# Altium integrated library Linear Technology PMIC-Switching Reg LTC1174-LTC3901.IntLib: 2647 symbols (part 302 of 310)
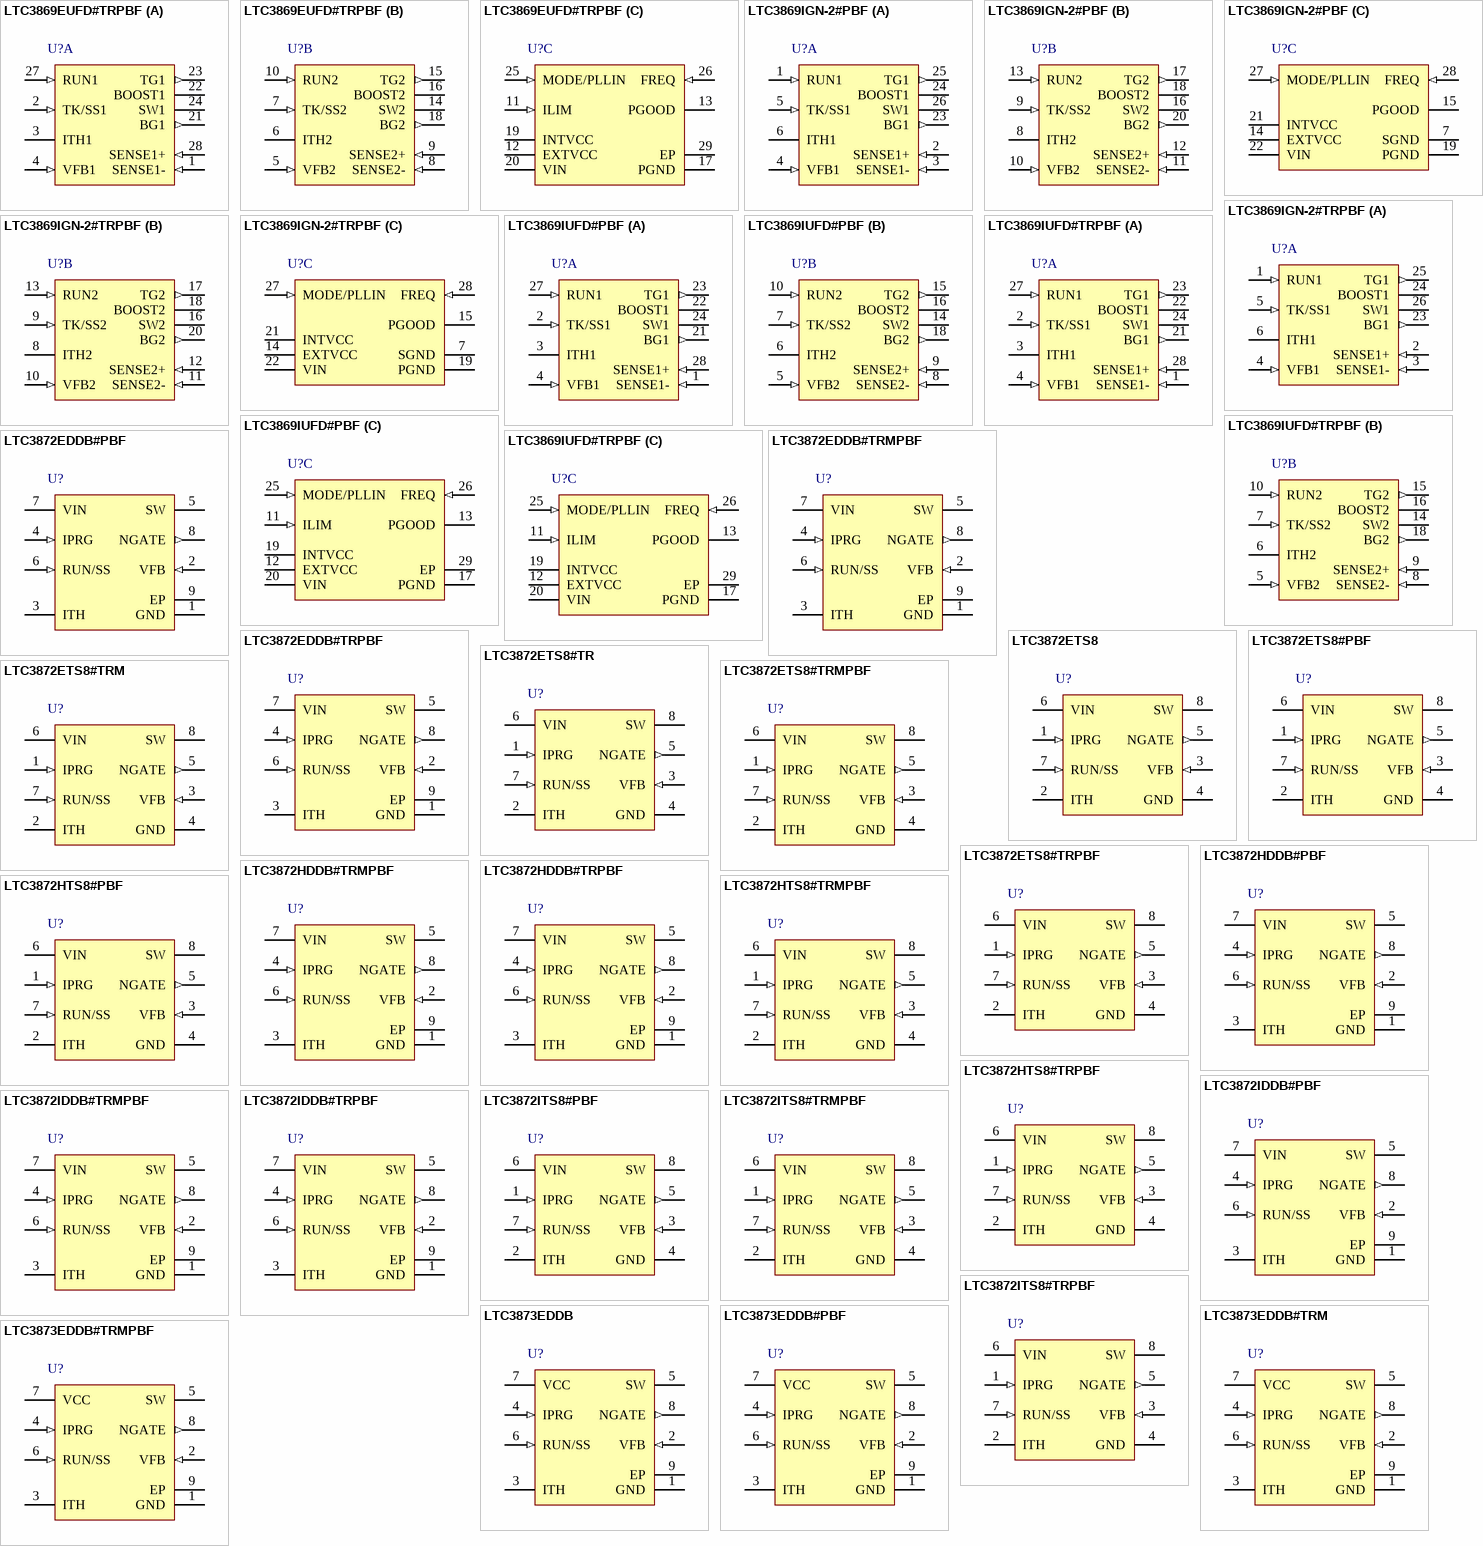
[diagram p299: symbols LTC3869EUFD#TRPBF to LTC3873EDDB#TRMPBF]

## LTC3873EDDB
designator U?
No Rsense Constant Frequency Current Mode Boost / Flyback / SEPIC DC / DC Controller, 8-pin SON (DDB-8), -40 to 85 degC; Manufacturer: Linear Technology; PartNumber: LTC3873EDDB; Number of Outputs: 1; PackageReference: DDB-8; PackageDescription: 8-Pin Plastic DFN, Body 3 x 2 mm, Pitch 0.5 mm; RoHS: FALSE; Code_JEDEC: MO-229
footprint LT-DDB-8_V (SON, 8-Leads, Body 3x2mm, Pitch 0.5mm, Thermal Pad 2.2x0.61mm)
pins: 1 GND (power) "Ground Pin.", 2 VFB (in) "This pin receives the feedback voltage from an external resistor divider across the output.", 3 ITH "This pin serves as the error ampli?er compensation point. Nominal voltage range for this pin is 0.7V to 1.9V.", 4 IPRG (in) "Current Sense Limit Select Pin.", 5 SW "Switch node connection to inductor and current sense input pin through external slope compensation resistor. Normally, the external N-channel MOSFET’s drain is connected to this pin.", 6 RUN/SS (in) "Shutdown and External Soft-Start Pin. In shutdown, all functions are disabled and the NGATE pin is held low.", 7 VCC (power) "Supply Pin. This pin must be closely decoupled to GND (Pin 4).", 8 NGATE (out) "Gate Drive for the External N-Channel MOSFET. This pin swings from 0V to VIN.", 9 EP (power) "Ground. Must be soldered to PCB for electrical contact and rated thermal performance."

## LTC3873EDDB#PBF
designator U?
No Rsense Constant Frequency Current Mode Boost / Flyback / SEPIC DC / DC Controller, 8-pin SON (DDB-8), -40 to 85 degC, Pb-Free; Manufacturer: Linear Technology; PartNumber: LTC3873EDDB#PBF; Number of Outputs: 1; PackageReference: DDB-8; PackageDescription: 8-Pin Plastic DFN, Body 3 x 2 mm, Pitch 0.5 mm; RoHS: TRUE; Code_JEDEC: MO-229
footprint LT-DDB-8_V (SON, 8-Leads, Body 3x2mm, Pitch 0.5mm, Thermal Pad 2.2x0.61mm)
pins: 1 GND (power) "Ground Pin.", 2 VFB (in) "This pin receives the feedback voltage from an external resistor divider across the output.", 3 ITH "This pin serves as the error ampli?er compensation point. Nominal voltage range for this pin is 0.7V to 1.9V.", 4 IPRG (in) "Current Sense Limit Select Pin.", 5 SW "Switch node connection to inductor and current sense input pin through external slope compensation resistor. Normally, the external N-channel MOSFET’s drain is connected to this pin.", 6 RUN/SS (in) "Shutdown and External Soft-Start Pin. In shutdown, all functions are disabled and the NGATE pin is held low.", 7 VCC (power) "Supply Pin. This pin must be closely decoupled to GND (Pin 4).", 8 NGATE (out) "Gate Drive for the External N-Channel MOSFET. This pin swings from 0V to VIN.", 9 EP (power) "Ground. Must be soldered to PCB for electrical contact and rated thermal performance."

## LTC3873EDDB#TRM
designator U?
No Rsense Constant Frequency Current Mode Boost / Flyback / SEPIC DC / DC Controller, 8-pin SON (DDB-8), -40 to 85 degC, Mini Tape and Reel; Manufacturer: Linear Technology; PartNumber: LTC3873EDDB#TRM; Number of Outputs: 1; PackageReference: DDB-8; PackageDescription: 8-Pin Plastic DFN, Body 3 x 2 mm, Pitch 0.5 mm; RoHS: FALSE; Code_JEDEC: MO-229
footprint LT-DDB-8_V (SON, 8-Leads, Body 3x2mm, Pitch 0.5mm, Thermal Pad 2.2x0.61mm)
pins: 1 GND (power) "Ground Pin.", 2 VFB (in) "This pin receives the feedback voltage from an external resistor divider across the output.", 3 ITH "This pin serves as the error ampli?er compensation point. Nominal voltage range for this pin is 0.7V to 1.9V.", 4 IPRG (in) "Current Sense Limit Select Pin.", 5 SW "Switch node connection to inductor and current sense input pin through external slope compensation resistor. Normally, the external N-channel MOSFET’s drain is connected to this pin.", 6 RUN/SS (in) "Shutdown and External Soft-Start Pin. In shutdown, all functions are disabled and the NGATE pin is held low.", 7 VCC (power) "Supply Pin. This pin must be closely decoupled to GND (Pin 4).", 8 NGATE (out) "Gate Drive for the External N-Channel MOSFET. This pin swings from 0V to VIN.", 9 EP (power) "Ground. Must be soldered to PCB for electrical contact and rated thermal performance."

## LTC3873EDDB#TRMPBF
designator U?
No Rsense Constant Frequency Current Mode Boost / Flyback / SEPIC DC / DC Controller, 8-pin SON (DDB-8), -40 to 85 degC, Pb-Free, Mini Tape and Reel; Manufacturer: Linear Technology; PartNumber: LTC3873EDDB#TRMPBF; Number of Outputs: 1; PackageReference: DDB-8; PackageDescription: 8-Pin Plastic DFN, Body 3 x 2 mm, Pitch 0.5 mm; Supplier 1: Digi-Key; Supplier Part Number 1: LTC3873EDDB#TRMPBFTR-ND; RoHS: TRUE; Code_JEDEC: MO-229
footprint LT-DDB-8_V (SON, 8-Leads, Body 3x2mm, Pitch 0.5mm, Thermal Pad 2.2x0.61mm)
pins: 1 GND (power) "Ground Pin.", 2 VFB (in) "This pin receives the feedback voltage from an external resistor divider across the output.", 3 ITH "This pin serves as the error ampli?er compensation point. Nominal voltage range for this pin is 0.7V to 1.9V.", 4 IPRG (in) "Current Sense Limit Select Pin.", 5 SW "Switch node connection to inductor and current sense input pin through external slope compensation resistor. Normally, the external N-channel MOSFET’s drain is connected to this pin.", 6 RUN/SS (in) "Shutdown and External Soft-Start Pin. In shutdown, all functions are disabled and the NGATE pin is held low.", 7 VCC (power) "Supply Pin. This pin must be closely decoupled to GND (Pin 4).", 8 NGATE (out) "Gate Drive for the External N-Channel MOSFET. This pin swings from 0V to VIN.", 9 EP (power) "Ground. Must be soldered to PCB for electrical contact and rated thermal performance."

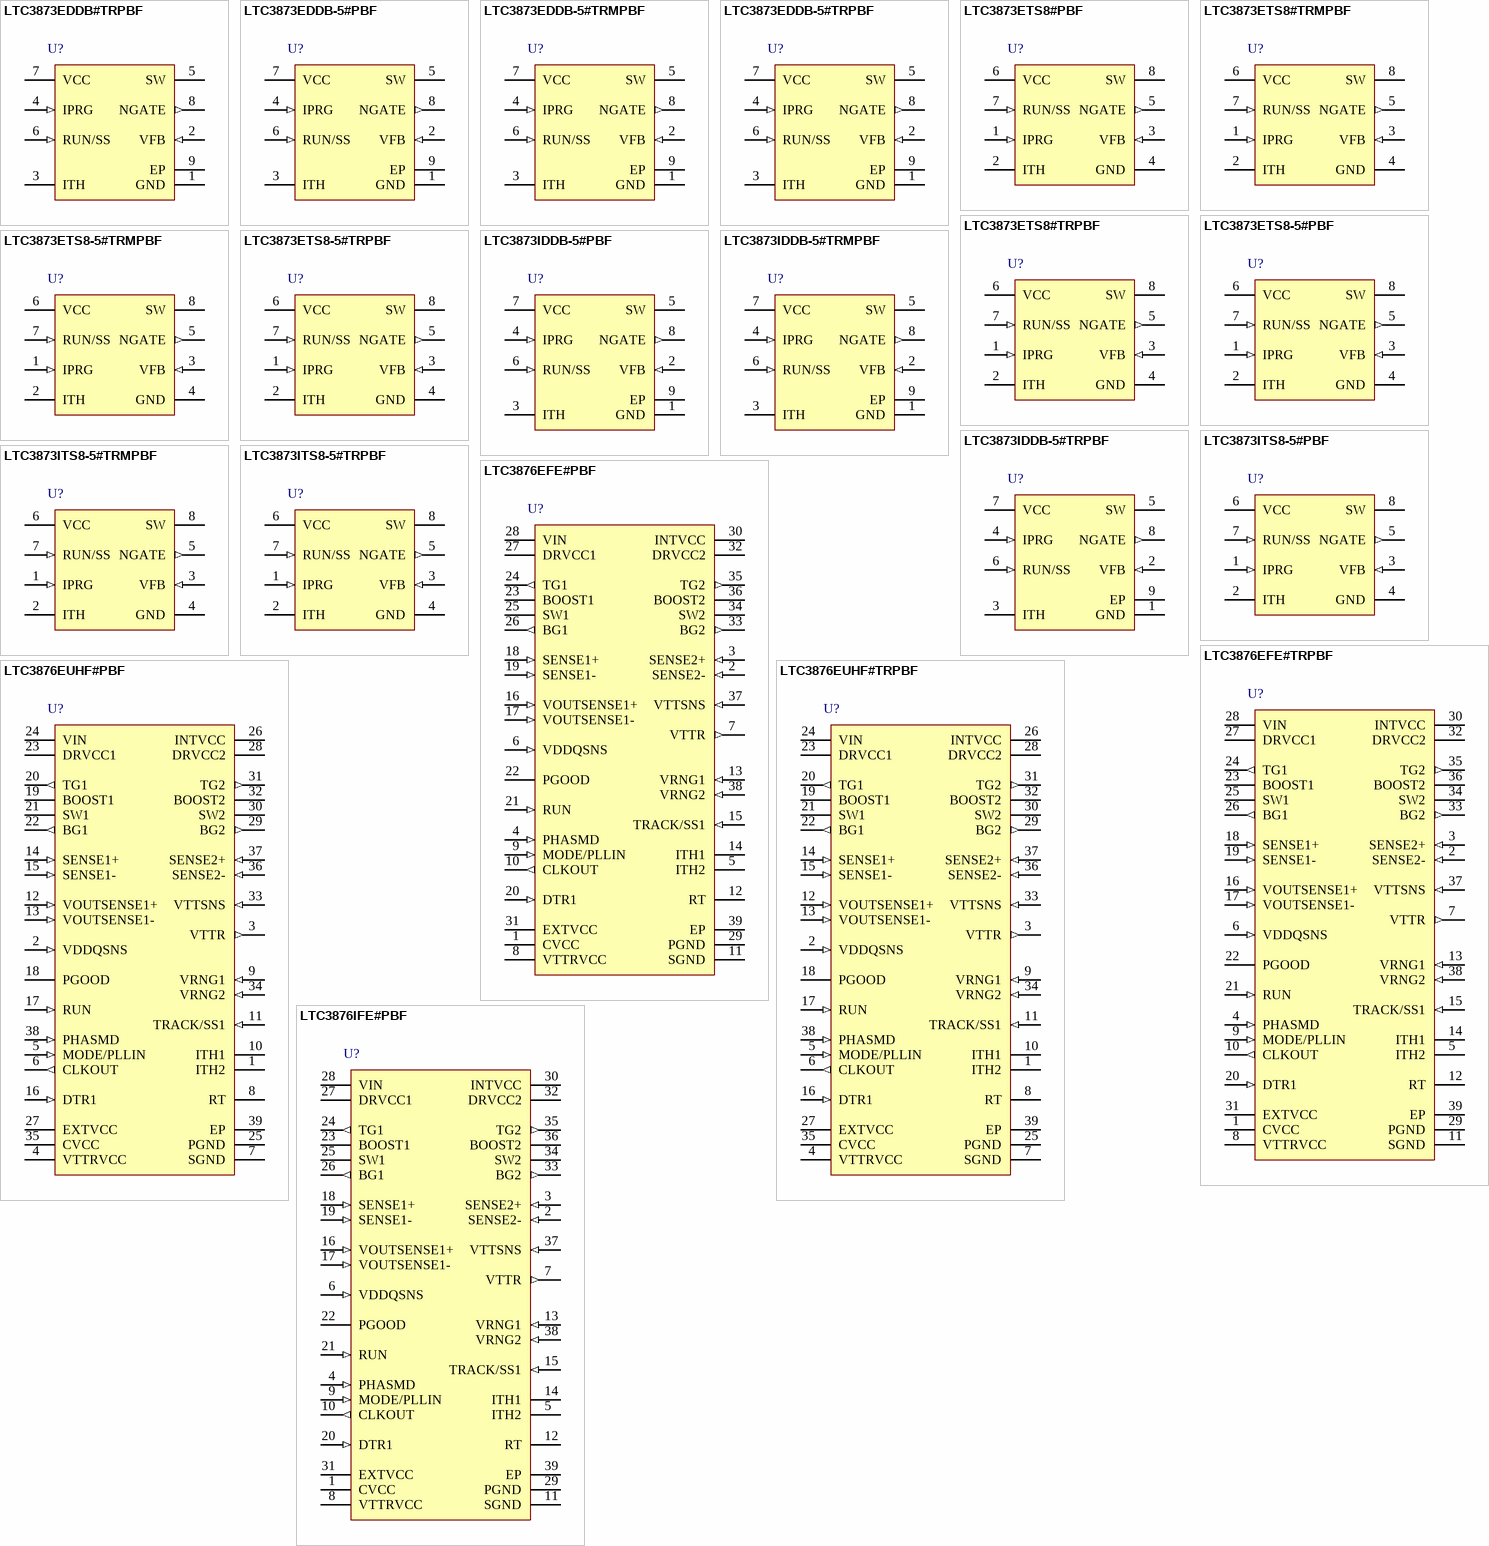
[diagram p110: symbols LTC3873EDDB#TRPBF to LTC3876IFE#PBF]

## LTC3873EDDB#TRPBF
designator U?
No Rsense Constant Frequency Current Mode Boost / Flyback / SEPIC DC / DC Controller, 8-pin SON (DDB-8), -40 to 85 degC, Pb-Free, Tape and Reel; Manufacturer: Linear Technology; PartNumber: LTC3873EDDB#TRPBF; Number of Outputs: 1; PackageReference: DDB-8; PackageDescription: 8-Pin Plastic DFN, Body 3 x 2 mm, Pitch 0.5 mm; Supplier 1: Digi-Key; Supplier Part Number 1: LTC3873EDDB#TRPBF-ND; RoHS: TRUE; Code_JEDEC: MO-229
footprint LT-DDB-8_V (SON, 8-Leads, Body 3x2mm, Pitch 0.5mm, Thermal Pad 2.2x0.61mm)
pins: 1 GND (power) "Ground Pin.", 2 VFB (in) "This pin receives the feedback voltage from an external resistor divider across the output.", 3 ITH "This pin serves as the error ampli?er compensation point. Nominal voltage range for this pin is 0.7V to 1.9V.", 4 IPRG (in) "Current Sense Limit Select Pin.", 5 SW "Switch node connection to inductor and current sense input pin through external slope compensation resistor. Normally, the external N-channel MOSFET’s drain is connected to this pin.", 6 RUN/SS (in) "Shutdown and External Soft-Start Pin. In shutdown, all functions are disabled and the NGATE pin is held low.", 7 VCC (power) "Supply Pin. This pin must be closely decoupled to GND (Pin 4).", 8 NGATE (out) "Gate Drive for the External N-Channel MOSFET. This pin swings from 0V to VIN.", 9 EP (power) "Ground. Must be soldered to PCB for electrical contact and rated thermal performance."

## LTC3873EDDB-5#PBF
designator U?
No Rsense Constant Frequency Current Mode Boost / Flyback / SEPIC DC / DC Controller, 8-pin SON (DDB-8), -40 to 85 degC, Pb-Free; Manufacturer: Linear Technology; PartNumber: LTC3873EDDB-5#PBF; Number of Outputs: 1; PackageReference: DDB-8; PackageDescription: 8-Pin Plastic DFN, Body 3 x 2 mm, Pitch 0.5 mm; Supplier 1: Newark; Supplier Part Number 1: 78T3275; RoHS: TRUE; Code_JEDEC: MO-229
footprint LT-DDB-8_V (SON, 8-Leads, Body 3x2mm, Pitch 0.5mm, Thermal Pad 2.2x0.61mm)
pins: 1 GND (power) "Ground Pin.", 2 VFB (in) "This pin receives the feedback voltage from an external resistor divider across the output.", 3 ITH "This pin serves as the error ampli?er compensation point. Nominal voltage range for this pin is 0.7V to 1.9V.", 4 IPRG (in) "Current Sense Limit Select Pin.", 5 SW "Switch node connection to inductor and current sense input pin through external slope compensation resistor. Normally, the external N-channel MOSFET’s drain is connected to this pin.", 6 RUN/SS (in) "Shutdown and External Soft-Start Pin. In shutdown, all functions are disabled and the NGATE pin is held low.", 7 VCC (power) "Supply Pin. This pin must be closely decoupled to GND (Pin 4).", 8 NGATE (out) "Gate Drive for the External N-Channel MOSFET. This pin swings from 0V to VIN.", 9 EP (power) "Ground. Must be soldered to PCB for electrical contact and rated thermal performance."

## LTC3873EDDB-5#TRMPBF
designator U?
No Rsense Constant Frequency Current Mode Boost / Flyback / SEPIC DC / DC Controller, 8-pin SON (DDB-8), -40 to 85 degC, Pb-Free, Mini Tape and Reel; Manufacturer: Linear Technology; PartNumber: LTC3873EDDB-5#TRMPBF; Number of Outputs: 1; PackageReference: DDB-8; PackageDescription: 8-Pin Plastic DFN, Body 3 x 2 mm, Pitch 0.5 mm; Supplier 1: Digi-Key; Supplier Part Number 1: LTC3873EDDB-5#TRMPBF-ND; RoHS: TRUE; Code_JEDEC: MO-229
footprint LT-DDB-8_V (SON, 8-Leads, Body 3x2mm, Pitch 0.5mm, Thermal Pad 2.2x0.61mm)
pins: 1 GND (power) "Ground Pin.", 2 VFB (in) "This pin receives the feedback voltage from an external resistor divider across the output.", 3 ITH "This pin serves as the error ampli?er compensation point. Nominal voltage range for this pin is 0.7V to 1.9V.", 4 IPRG (in) "Current Sense Limit Select Pin.", 5 SW "Switch node connection to inductor and current sense input pin through external slope compensation resistor. Normally, the external N-channel MOSFET’s drain is connected to this pin.", 6 RUN/SS (in) "Shutdown and External Soft-Start Pin. In shutdown, all functions are disabled and the NGATE pin is held low.", 7 VCC (power) "Supply Pin. This pin must be closely decoupled to GND (Pin 4).", 8 NGATE (out) "Gate Drive for the External N-Channel MOSFET. This pin swings from 0V to VIN.", 9 EP (power) "Ground. Must be soldered to PCB for electrical contact and rated thermal performance."

## LTC3873EDDB-5#TRPBF
designator U?
No Rsense Constant Frequency Current Mode Boost / Flyback / SEPIC DC / DC Controller, 8-pin SON (DDB-8), -40 to 85 degC, Pb-Free, Tape and Reel; Manufacturer: Linear Technology; PartNumber: LTC3873EDDB-5#TRPBF; Number of Outputs: 1; PackageReference: DDB-8; PackageDescription: 8-Pin Plastic DFN, Body 3 x 2 mm, Pitch 0.5 mm; Supplier 1: Digi-Key; Supplier Part Number 1: LTC3873EDDB-5#TRPBF-ND; RoHS: TRUE; Code_JEDEC: MO-229
footprint LT-DDB-8_V (SON, 8-Leads, Body 3x2mm, Pitch 0.5mm, Thermal Pad 2.2x0.61mm)
pins: 1 GND (power) "Ground Pin.", 2 VFB (in) "This pin receives the feedback voltage from an external resistor divider across the output.", 3 ITH "This pin serves as the error ampli?er compensation point. Nominal voltage range for this pin is 0.7V to 1.9V.", 4 IPRG (in) "Current Sense Limit Select Pin.", 5 SW "Switch node connection to inductor and current sense input pin through external slope compensation resistor. Normally, the external N-channel MOSFET’s drain is connected to this pin.", 6 RUN/SS (in) "Shutdown and External Soft-Start Pin. In shutdown, all functions are disabled and the NGATE pin is held low.", 7 VCC (power) "Supply Pin. This pin must be closely decoupled to GND (Pin 4).", 8 NGATE (out) "Gate Drive for the External N-Channel MOSFET. This pin swings from 0V to VIN.", 9 EP (power) "Ground. Must be soldered to PCB for electrical contact and rated thermal performance."

## LTC3873ETS8#PBF
designator U?
No Rsense Constant Frequency Current Mode Boost / Flyback / SEPIC DC / DC Controller, 8-pin SOT23 (TS8-8), -40 to 85 degC, Pb-Free; Manufacturer: Linear Technology; PartNumber: LTC3873ETS8#PBF; Number of Outputs: 1; PackageReference: TS8-8; PackageDescription: 8-Pin Plastic TSOT-23, Body 2.9 x 1.63 mm, Pitch 0.65 mm; RoHS: TRUE; Code_JEDEC: MO-193
footprint LT-TS8-8-TSOT-23_V (SOT23, 8-Leads, Body 2.9x1.75mm, Pitch 0.65mm)
pins: 1 IPRG (in) "Current Sense Limit Select Pin.", 2 ITH "This pin serves as the error ampli?er compensation point. Nominal voltage range for this pin is 0.7V to 1.9V.", 3 VFB (in) "This pin receives the feedback voltage from an external resistor divider across the output.", 4 GND (power) "Ground Pin.", 5 NGATE (out) "Gate Drive for the External N-Channel MOSFET. This pin swings from 0V to VIN.", 6 VCC (power) "Supply Pin. This pin must be closely decoupled to GND (Pin 4).", 7 RUN/SS (in) "Shutdown and External Soft-Start Pin. In shutdown, all functions are disabled and the NGATE pin is held low.", 8 SW "Switch node connection to inductor and current sense input pin through external slope compensation resistor. Normally, the external N-channel MOSFET’s drain is connected to this pin."

## LTC3873ETS8#TRMPBF
designator U?
No Rsense Constant Frequency Current Mode Boost / Flyback / SEPIC DC / DC Controller, 8-pin SOT23 (TS8-8), -40 to 85 degC, Pb-Free, Mini Tape and Reel; Manufacturer: Linear Technology; PartNumber: LTC3873ETS8#TRMPBF; Number of Outputs: 1; PackageReference: TS8-8; PackageDescription: 8-Pin Plastic TSOT-23, Body 2.9 x 1.63 mm, Pitch 0.65 mm; Supplier 1: Digi-Key; Supplier Part Number 1: LTC3873ETS8#TRMPBFTR-ND; RoHS: TRUE; Code_JEDEC: MO-193
footprint LT-TS8-8-TSOT-23_V (SOT23, 8-Leads, Body 2.9x1.75mm, Pitch 0.65mm)
pins: 1 IPRG (in) "Current Sense Limit Select Pin.", 2 ITH "This pin serves as the error ampli?er compensation point. Nominal voltage range for this pin is 0.7V to 1.9V.", 3 VFB (in) "This pin receives the feedback voltage from an external resistor divider across the output.", 4 GND (power) "Ground Pin.", 5 NGATE (out) "Gate Drive for the External N-Channel MOSFET. This pin swings from 0V to VIN.", 6 VCC (power) "Supply Pin. This pin must be closely decoupled to GND (Pin 4).", 7 RUN/SS (in) "Shutdown and External Soft-Start Pin. In shutdown, all functions are disabled and the NGATE pin is held low.", 8 SW "Switch node connection to inductor and current sense input pin through external slope compensation resistor. Normally, the external N-channel MOSFET’s drain is connected to this pin."

## LTC3873ETS8#TRPBF
designator U?
No Rsense Constant Frequency Current Mode Boost / Flyback / SEPIC DC / DC Controller, 8-pin SOT23 (TS8-8), -40 to 85 degC, Pb-Free, Tape and Reel; Manufacturer: Linear Technology; PartNumber: LTC3873ETS8#TRPBF; Number of Outputs: 1; PackageReference: TS8-8; PackageDescription: 8-Pin Plastic TSOT-23, Body 2.9 x 1.63 mm, Pitch 0.65 mm; Supplier 1: Digi-Key; Supplier Part Number 1: LTC3873ETS8#TRPBF-ND; RoHS: TRUE; Code_JEDEC: MO-193
footprint LT-TS8-8-TSOT-23_V (SOT23, 8-Leads, Body 2.9x1.75mm, Pitch 0.65mm)
pins: 1 IPRG (in) "Current Sense Limit Select Pin.", 2 ITH "This pin serves as the error ampli?er compensation point. Nominal voltage range for this pin is 0.7V to 1.9V.", 3 VFB (in) "This pin receives the feedback voltage from an external resistor divider across the output.", 4 GND (power) "Ground Pin.", 5 NGATE (out) "Gate Drive for the External N-Channel MOSFET. This pin swings from 0V to VIN.", 6 VCC (power) "Supply Pin. This pin must be closely decoupled to GND (Pin 4).", 7 RUN/SS (in) "Shutdown and External Soft-Start Pin. In shutdown, all functions are disabled and the NGATE pin is held low.", 8 SW "Switch node connection to inductor and current sense input pin through external slope compensation resistor. Normally, the external N-channel MOSFET’s drain is connected to this pin."

## LTC3873ETS8-5#PBF
designator U?
No Rsense Constant Frequency Current Mode Boost / Flyback / SEPIC DC / DC Controller, 8-pin SOT23 (TS8-8), -40 to 85 degC, Pb-Free; Manufacturer: Linear Technology; PartNumber: LTC3873ETS8-5#PBF; Number of Outputs: 1; PackageReference: TS8-8; PackageDescription: 8-Pin Plastic TSOT-23, Body 2.9 x 1.63 mm, Pitch 0.65 mm; Supplier 1: Newark; Supplier Part Number 1: 78T3277; RoHS: TRUE; Code_JEDEC: MO-193
footprint LT-TS8-8-TSOT-23_V (SOT23, 8-Leads, Body 2.9x1.75mm, Pitch 0.65mm)
pins: 1 IPRG (in) "Current Sense Limit Select Pin.", 2 ITH "This pin serves as the error ampli?er compensation point. Nominal voltage range for this pin is 0.7V to 1.9V.", 3 VFB (in) "This pin receives the feedback voltage from an external resistor divider across the output.", 4 GND (power) "Ground Pin.", 5 NGATE (out) "Gate Drive for the External N-Channel MOSFET. This pin swings from 0V to VIN.", 6 VCC (power) "Supply Pin. This pin must be closely decoupled to GND (Pin 4).", 7 RUN/SS (in) "Shutdown and External Soft-Start Pin. In shutdown, all functions are disabled and the NGATE pin is held low.", 8 SW "Switch node connection to inductor and current sense input pin through external slope compensation resistor. Normally, the external N-channel MOSFET’s drain is connected to this pin."

## LTC3873ETS8-5#TRMPBF
designator U?
No Rsense Constant Frequency Current Mode Boost / Flyback / SEPIC DC / DC Controller, 8-pin SOT23 (TS8-8), -40 to 85 degC, Pb-Free, Mini Tape and Reel; Manufacturer: Linear Technology; PartNumber: LTC3873ETS8-5#TRMPBF; Number of Outputs: 1; PackageReference: TS8-8; PackageDescription: 8-Pin Plastic TSOT-23, Body 2.9 x 1.63 mm, Pitch 0.65 mm; Supplier 1: Digi-Key; Supplier Part Number 1: LTC3873ETS8-5#TRMPBF-ND; RoHS: TRUE; Code_JEDEC: MO-193
footprint LT-TS8-8-TSOT-23_V (SOT23, 8-Leads, Body 2.9x1.75mm, Pitch 0.65mm)
pins: 1 IPRG (in) "Current Sense Limit Select Pin.", 2 ITH "This pin serves as the error ampli?er compensation point. Nominal voltage range for this pin is 0.7V to 1.9V.", 3 VFB (in) "This pin receives the feedback voltage from an external resistor divider across the output.", 4 GND (power) "Ground Pin.", 5 NGATE (out) "Gate Drive for the External N-Channel MOSFET. This pin swings from 0V to VIN.", 6 VCC (power) "Supply Pin. This pin must be closely decoupled to GND (Pin 4).", 7 RUN/SS (in) "Shutdown and External Soft-Start Pin. In shutdown, all functions are disabled and the NGATE pin is held low.", 8 SW "Switch node connection to inductor and current sense input pin through external slope compensation resistor. Normally, the external N-channel MOSFET’s drain is connected to this pin."

## LTC3873ETS8-5#TRPBF
designator U?
No Rsense Constant Frequency Current Mode Boost / Flyback / SEPIC DC / DC Controller, 8-pin SOT23 (TS8-8), -40 to 85 degC, Pb-Free, Tape and Reel; Manufacturer: Linear Technology; PartNumber: LTC3873ETS8-5#TRPBF; Number of Outputs: 1; PackageReference: TS8-8; PackageDescription: 8-Pin Plastic TSOT-23, Body 2.9 x 1.63 mm, Pitch 0.65 mm; Supplier 1: Digi-Key; Supplier Part Number 1: LTC3873ETS8-5#TRPBF-ND; RoHS: TRUE; Code_JEDEC: MO-193
footprint LT-TS8-8-TSOT-23_V (SOT23, 8-Leads, Body 2.9x1.75mm, Pitch 0.65mm)
pins: 1 IPRG (in) "Current Sense Limit Select Pin.", 2 ITH "This pin serves as the error ampli?er compensation point. Nominal voltage range for this pin is 0.7V to 1.9V.", 3 VFB (in) "This pin receives the feedback voltage from an external resistor divider across the output.", 4 GND (power) "Ground Pin.", 5 NGATE (out) "Gate Drive for the External N-Channel MOSFET. This pin swings from 0V to VIN.", 6 VCC (power) "Supply Pin. This pin must be closely decoupled to GND (Pin 4).", 7 RUN/SS (in) "Shutdown and External Soft-Start Pin. In shutdown, all functions are disabled and the NGATE pin is held low.", 8 SW "Switch node connection to inductor and current sense input pin through external slope compensation resistor. Normally, the external N-channel MOSFET’s drain is connected to this pin."

## LTC3873IDDB-5#PBF
designator U?
No Rsense Constant Frequency Current Mode Boost / Flyback / SEPIC DC / DC Controller, 8-pin SON (DDB-8), -40 to 125 degC, Pb-Free; Manufacturer: Linear Technology; PartNumber: LTC3873IDDB-5#PBF; Number of Outputs: 1; PackageReference: DDB-8; PackageDescription: 8-Pin Plastic DFN, Body 3 x 2 mm, Pitch 0.5 mm; Supplier 1: Newark; Supplier Part Number 1: 78T3279; RoHS: TRUE; Code_JEDEC: MO-229
footprint LT-DDB-8_V (SON, 8-Leads, Body 3x2mm, Pitch 0.5mm, Thermal Pad 2.2x0.61mm)
pins: 1 GND (power) "Ground Pin.", 2 VFB (in) "This pin receives the feedback voltage from an external resistor divider across the output.", 3 ITH "This pin serves as the error ampli?er compensation point. Nominal voltage range for this pin is 0.7V to 1.9V.", 4 IPRG (in) "Current Sense Limit Select Pin.", 5 SW "Switch node connection to inductor and current sense input pin through external slope compensation resistor. Normally, the external N-channel MOSFET’s drain is connected to this pin.", 6 RUN/SS (in) "Shutdown and External Soft-Start Pin. In shutdown, all functions are disabled and the NGATE pin is held low.", 7 VCC (power) "Supply Pin. This pin must be closely decoupled to GND (Pin 4).", 8 NGATE (out) "Gate Drive for the External N-Channel MOSFET. This pin swings from 0V to VIN.", 9 EP (power) "Ground. Must be soldered to PCB for electrical contact and rated thermal performance."

## LTC3873IDDB-5#TRMPBF
designator U?
No Rsense Constant Frequency Current Mode Boost / Flyback / SEPIC DC / DC Controller, 8-pin SON (DDB-8), -40 to 125 degC, Pb-Free, Mini Tape and Reel; Manufacturer: Linear Technology; PartNumber: LTC3873IDDB-5#TRMPBF; Number of Outputs: 1; PackageReference: DDB-8; PackageDescription: 8-Pin Plastic DFN, Body 3 x 2 mm, Pitch 0.5 mm; Supplier 1: Digi-Key; Supplier Part Number 1: LTC3873IDDB-5#TRMPBF-ND; RoHS: TRUE; Code_JEDEC: MO-229
footprint LT-DDB-8_V (SON, 8-Leads, Body 3x2mm, Pitch 0.5mm, Thermal Pad 2.2x0.61mm)
pins: 1 GND (power) "Ground Pin.", 2 VFB (in) "This pin receives the feedback voltage from an external resistor divider across the output.", 3 ITH "This pin serves as the error ampli?er compensation point. Nominal voltage range for this pin is 0.7V to 1.9V.", 4 IPRG (in) "Current Sense Limit Select Pin.", 5 SW "Switch node connection to inductor and current sense input pin through external slope compensation resistor. Normally, the external N-channel MOSFET’s drain is connected to this pin.", 6 RUN/SS (in) "Shutdown and External Soft-Start Pin. In shutdown, all functions are disabled and the NGATE pin is held low.", 7 VCC (power) "Supply Pin. This pin must be closely decoupled to GND (Pin 4).", 8 NGATE (out) "Gate Drive for the External N-Channel MOSFET. This pin swings from 0V to VIN.", 9 EP (power) "Ground. Must be soldered to PCB for electrical contact and rated thermal performance."

## LTC3873IDDB-5#TRPBF
designator U?
No Rsense Constant Frequency Current Mode Boost / Flyback / SEPIC DC / DC Controller, 8-pin SON (DDB-8), -40 to 125 degC, Pb-Free, Tape and Reel; Manufacturer: Linear Technology; PartNumber: LTC3873IDDB-5#TRPBF; Number of Outputs: 1; PackageReference: DDB-8; PackageDescription: 8-Pin Plastic DFN, Body 3 x 2 mm, Pitch 0.5 mm; Supplier 1: Digi-Key; Supplier Part Number 1: LTC3873IDDB-5#TRPBF-ND; RoHS: TRUE; Code_JEDEC: MO-229
footprint LT-DDB-8_V (SON, 8-Leads, Body 3x2mm, Pitch 0.5mm, Thermal Pad 2.2x0.61mm)
pins: 1 GND (power) "Ground Pin.", 2 VFB (in) "This pin receives the feedback voltage from an external resistor divider across the output.", 3 ITH "This pin serves as the error ampli?er compensation point. Nominal voltage range for this pin is 0.7V to 1.9V.", 4 IPRG (in) "Current Sense Limit Select Pin.", 5 SW "Switch node connection to inductor and current sense input pin through external slope compensation resistor. Normally, the external N-channel MOSFET’s drain is connected to this pin.", 6 RUN/SS (in) "Shutdown and External Soft-Start Pin. In shutdown, all functions are disabled and the NGATE pin is held low.", 7 VCC (power) "Supply Pin. This pin must be closely decoupled to GND (Pin 4).", 8 NGATE (out) "Gate Drive for the External N-Channel MOSFET. This pin swings from 0V to VIN.", 9 EP (power) "Ground. Must be soldered to PCB for electrical contact and rated thermal performance."

## LTC3873ITS8-5#PBF
designator U?
No Rsense Constant Frequency Current Mode Boost / Flyback / SEPIC DC / DC Controller, 8-pin SOT23 (TS8-8), -40 to 125 degC, Pb-Free; Manufacturer: Linear Technology; PartNumber: LTC3873ITS8-5#PBF; Number of Outputs: 1; PackageReference: TS8-8; PackageDescription: 8-Pin Plastic TSOT-23, Body 2.9 x 1.63 mm, Pitch 0.65 mm; Supplier 1: Newark; Supplier Part Number 1: 78T3280; RoHS: TRUE; Code_JEDEC: MO-193
footprint LT-TS8-8-TSOT-23_V (SOT23, 8-Leads, Body 2.9x1.75mm, Pitch 0.65mm)
pins: 1 IPRG (in) "Current Sense Limit Select Pin.", 2 ITH "This pin serves as the error ampli?er compensation point. Nominal voltage range for this pin is 0.7V to 1.9V.", 3 VFB (in) "This pin receives the feedback voltage from an external resistor divider across the output.", 4 GND (power) "Ground Pin.", 5 NGATE (out) "Gate Drive for the External N-Channel MOSFET. This pin swings from 0V to VIN.", 6 VCC (power) "Supply Pin. This pin must be closely decoupled to GND (Pin 4).", 7 RUN/SS (in) "Shutdown and External Soft-Start Pin. In shutdown, all functions are disabled and the NGATE pin is held low.", 8 SW "Switch node connection to inductor and current sense input pin through external slope compensation resistor. Normally, the external N-channel MOSFET’s drain is connected to this pin."

## LTC3873ITS8-5#TRMPBF
designator U?
No Rsense Constant Frequency Current Mode Boost / Flyback / SEPIC DC / DC Controller, 8-pin SOT23 (TS8-8), -40 to 125 degC, Pb-Free, Mini Tape and Reel; Manufacturer: Linear Technology; PartNumber: LTC3873ITS8-5#TRMPBF; Number of Outputs: 1; PackageReference: TS8-8; PackageDescription: 8-Pin Plastic TSOT-23, Body 2.9 x 1.63 mm, Pitch 0.65 mm; Supplier 1: Digi-Key; Supplier Part Number 1: LTC3873ITS8-5#TRMPBF-ND; RoHS: TRUE; Code_JEDEC: MO-193
footprint LT-TS8-8-TSOT-23_V (SOT23, 8-Leads, Body 2.9x1.75mm, Pitch 0.65mm)
pins: 1 IPRG (in) "Current Sense Limit Select Pin.", 2 ITH "This pin serves as the error ampli?er compensation point. Nominal voltage range for this pin is 0.7V to 1.9V.", 3 VFB (in) "This pin receives the feedback voltage from an external resistor divider across the output.", 4 GND (power) "Ground Pin.", 5 NGATE (out) "Gate Drive for the External N-Channel MOSFET. This pin swings from 0V to VIN.", 6 VCC (power) "Supply Pin. This pin must be closely decoupled to GND (Pin 4).", 7 RUN/SS (in) "Shutdown and External Soft-Start Pin. In shutdown, all functions are disabled and the NGATE pin is held low.", 8 SW "Switch node connection to inductor and current sense input pin through external slope compensation resistor. Normally, the external N-channel MOSFET’s drain is connected to this pin."

## LTC3873ITS8-5#TRPBF
designator U?
No Rsense Constant Frequency Current Mode Boost / Flyback / SEPIC DC / DC Controller, 8-pin SOT23 (TS8-8), -40 to 125 degC, Pb-Free, Tape and Reel; Manufacturer: Linear Technology; PartNumber: LTC3873ITS8-5#TRPBF; Number of Outputs: 1; PackageReference: TS8-8; PackageDescription: 8-Pin Plastic TSOT-23, Body 2.9 x 1.63 mm, Pitch 0.65 mm; Supplier 1: Digi-Key; Supplier Part Number 1: LTC3873ITS8-5#TRPBF-ND; RoHS: TRUE; Code_JEDEC: MO-193
footprint LT-TS8-8-TSOT-23_V (SOT23, 8-Leads, Body 2.9x1.75mm, Pitch 0.65mm)
pins: 1 IPRG (in) "Current Sense Limit Select Pin.", 2 ITH "This pin serves as the error ampli?er compensation point. Nominal voltage range for this pin is 0.7V to 1.9V.", 3 VFB (in) "This pin receives the feedback voltage from an external resistor divider across the output.", 4 GND (power) "Ground Pin.", 5 NGATE (out) "Gate Drive for the External N-Channel MOSFET. This pin swings from 0V to VIN.", 6 VCC (power) "Supply Pin. This pin must be closely decoupled to GND (Pin 4).", 7 RUN/SS (in) "Shutdown and External Soft-Start Pin. In shutdown, all functions are disabled and the NGATE pin is held low.", 8 SW "Switch node connection to inductor and current sense input pin through external slope compensation resistor. Normally, the external N-channel MOSFET’s drain is connected to this pin."

## LTC3876EFE#PBF
designator U?
Dual DC/DC Controller for DDR Power with Differential VDDQ Sensing and +/-50 mA VTT Reference, 38-pin SOP (FE-38-EPV-AA), -40 to 125 degC, Pb-Free; Manufacturer: Linear Technology; PartNumber: LTC3876EFE#PBF; Number of Outputs: 3; PackageReference: FE-38; PackageDescription: 38-Pin Plastic TSSOP, Body 9.7 x 4.4 mm, Pitch 0.5 mm; Supplier 1: Digi-Key; Supplier Part Number 1: LTC3876EFE#PBF-ND; RoHS: TRUE
footprint LT-FE-38-EPV-AA_N (SOP, 38-Leads, Body 9.8x4.5mm, Pitch 0.5mm, Thermal Pad 4.75x2.74mm, IPC Medium Density)
footprint LT-FE-38-EPV-AA_L (SOP, 38-Leads, Body 9.8x4.5mm, Pitch 0.5mm, Thermal Pad 4.75x2.74mm, IPC High Density)
footprint LT-FE-38-EPV-AA_M (SOP, 38-Leads, Body 9.8x4.5mm, Pitch 0.5mm, Thermal Pad 4.75x2.74mm, IPC Low Density)
pins: 1 CVCC (power) "Connect VCC. This pin should always be connected to INTVCC.", 2 SENSE2- (in) "Differential Current Comparator(-) Input. The comparator can be used for RSENSE sensing or inductor DCR sensing. For RSENSE current sensing Kelvin (4-wire) connect the SENSE- pin to the (-) terminal of RSENSE. For DCR (See Datasheet)", 3 SENSE2+ (in) "Differential Current Comparator (+) Input. The ITH pin voltage and controlled offsets between the SENSE+ and SENSE- pins set the current trip threshold. The comparator can be used for RSENSE sensing or inductor DCR sensing. (See Datasheet)", 4 PHASMD (in) "Phase Selector Input. This pin determines the relative phases of channels and the CLKOUT signal. With zero phase being defined as the rising edge of TG1: Pulling this pin to SGND locks TG2 to 180degrees and CLKOUT to (See Datasheet)", 5 ITH2 "Channel 2 VTT Current Control Threshold. This pin is the output of the error amplifier and the switching regulator’s compensation point. The current comparator threshold increases with this control voltage. This voltag(See Datasheet)", 6 VDDQSNS (in) "VDDQ Sense. VDDQSNS provides the VDDQ regulation reference point to the VTT differential reference resistor divider. The positive Input to the VTT differential reference resistor divider is VDDQSNS and negative input is (See Datasheet)", 7 VTTR (out) "VTT Reference. VTTR is the buffered output of the VTT differential reference resistor divider. VTTR is specifically designed for large DDR memory systems by providing superior accuracy and load regulation specified for up to (See Datasheet)", 8 VTTRVCC (power) "VTTR Supply Input for VTTR Reference. Connect to DRVCC through an RC decoupling filter of 2.2uF and 1ohm typically.", 9 MODE/PLLIN (in) "Operation Mode Selection or External Clock Synchronization Input. When this pin is tied to INTVCC forced continuous mode operation is selected. Typing this pin to SGND allows discontinuous mode operation on channel 1, VDDQ (See Datasheet)", 10 CLKOUT (out) "Clock Output of Internal Clock Generator. Its output level swings between INTVCC and SGND. If clock input is present at the MODE/PLLIN pin, it will be synchronized to the input clock, with phase set by the PHASMD pin. If no (See Datasheet)", 11 SGND (power) "Signal Ground. All small-signal analog components should be connected to this ground. Connect SGND to the exposed pad and PGND pin using a single PCB trace.", 12 RT "Clock Generator Frequency Programming Pin. Connect an external resistor from RT to SGND to program the switching frequency between 200kHz and 2MHz. An external clock applied to MODE/PLLIN should be within +/-30% of this (See Datasheet)", 13 VRNG1 (in) "Current Sense Voltage Range Inputs. When programmed between 0.6V and 2V, the voltage applied to VRNG1,2 is twenty times (20x) the maximum sense voltage between SENSE1,2+ and SENSE1,2-, i.e., for either channel, (VSENSE+ - (See Datasheet)", 14 ITH1 "Channel 1 VDDQ Current Control Threshold. This pin is the output of the error amplifier and the switching regulator’s compensation point. The current comparator threshold increases with this control voltage. The voltag(See Datasheet)", 15 TRACK/SS1 (in) "External Tracking and SoftStart Input for Channel 1 VDDQ . An internal 1uA temperature-independent pull-up current source is connected to the TRACK/SS1 pin. A capacitor to ground at this pin sets the ramp time to the final (See Datasheet)", 16 VOUTSENSE1+ (in) "VDDQ Differential Output Sense Amplifier (+) Input of Channel 1. Connect this pin to a feedback resistor divider between the positive and negative output capacitor terminals of VOUT1. In nominal operation the LTC3876 will (See Datasheet)", 17 VOUTSENSE1- (in) "Differential Output Sense Amplifier (-) Input of Channel 1. Connect this pin to the negative terminal of the output load capacitor. This pin is the remote ground connection for VDDQSNS which provides the input to the VTT (See Datasheet)", 18 SENSE1+ (in) "Differential Current Comparator (+) Input. The ITH pin voltage and controlled offsets between the SENSE+ and SENSE- pins set the current trip threshold. The comparator can be used for RSENSE sensing or inductor DCR sensing. (See Datasheet)", 19 SENSE1- (in) "Differential Current Comparator(-) Input. The comparator can be used for RSENSE sensing or inductor DCR sensing. For RSENSE current sensing Kelvin (4-wire) connect the SENSE- pin to the (-) terminal of RSENSE. For DCR (See Datasheet)", 20 DTR1 (in) "Detect Load Transient Transient for Overshoot Reduction. When load current suddenly drops, if voltage on this DTR pin drops below half of INTVCC, the bottom gate (BG) will turn off and allow the inductor current to drop to (See Datasheet)", 21 RUN (in) "Run Control Input. An internal proportional-to-absolute temperature (PTAT) pull-up current source (~2.5uA at 25degrees) is constantly connected to this pin. Taking RUN below a threshold (~0.8V at 25degrees) shuts down all (See Datasheet)", 22 PGOOD (oc) "Power Good Indicator Output. This open-drain logic output is pulled to ground when VDDQ goes out of a +/-7.5% or VTT goes out of a +/-10% window around the regulation point, after a 50us power-bad masking delay. Returning to (See Datasheet)", 23 BOOST1 "Boosted Floating Driver Supply for Top MOSFET Drivers. The (+) terminal of the bootstrap capacitor CB connects to this pin. The BOOST pins swings between (DRVCC - VSCHOTTKY) and (VIN + DRVCC - VSCHOTTKY).", 24 TG1 (out) "Top Gate Driver Outputs. The TG pins drive the gates of the top N-channel power MOSFET with a voltage swing of DRVCC between SW and BOOST.", 25 SW1 "Switch Node Connection to Inductors. Voltage swings are from a diode voltage below ground to VIN. The (-) terminal of the bootstrap capacitor, CB connects to this node.", 26 BG1 (out) "Bottom Gate Driver Outputs. The BG pins drive the gates of the bottom N-channel power MOSFET between PGND and DRVCC.", 27 DRVCC1 (power) "Supplies of Bottom Gate Drivers. DRVCC1 is also the output of an internal 5.3V regulator, DRVCC2 is also the output of the EXTVCC switch. Normally the two DRVCC pins are shorted together on the PCB, and decoupled to PGND (See Datasheet)", 28 VIN (power) "Input Voltage Supply. The supply voltage can range from 4.5V to 38V. For increased noise immunity decouple this pin to SGND with an RC filter. Voltage at this pin is also used to adjust top gate on-time, therefore it is (See Datasheet)", 29 PGND (power) "Power Ground. Connect this pin as close as practical to the source of the bottom N-channel power MOSFET, the (-) terminal of CDRVCC and the (-) terminal of CIN. Connect the exposed pad and PGND pin to SGND pin using a single (See Datasheet)", 30 INTVCC (power) "Supply Input for Internal Circuitry (Not Including Gate Drivers). Normally powered from the DRVCC pins through a decoupling RC filter to SGND (typically 2.2ohm and 1uF)", 31 EXTVCC (power) "External Power Input. When EXTVCC exceeds 4.7V, an internal switch connects this pin to DRVCC2 and shuts down the internal regulator so that INTVCC and gate-drive power is drawn from EXTVCC. The VIN pin still needs to be (See Datasheet)", 32 DRVCC2 (power) "Supplies of Bottom Gate Drivers. DRVCC1 is also the output of an internal 5.3V regulator, DRVCC2 is also the output of the EXTVCC switch. Normally the two DRVCC pins are shorted together on the PCB, and decoupled to PGND (See Datasheet)", 33 BG2 (out) "Bottom Gate Driver Outputs. The BG pins drive the gates of the bottom N-channel power MOSFET between PGND and DRVCC.", 34 SW2 "Switch Node Connection to Inductors. Voltage swings are from a diode voltage below ground to VIN. The (-) terminal of the bootstrap capacitor, CB connects to this node.", 35 TG2 (out) "Top Gate Driver Outputs. The TG pins drive the gates of the top N-channel power MOSFET with a voltage swing of DRVCC between SW and BOOST.", 36 BOOST2 "Boosted Floating Driver Supply for Top MOSFET Drivers. The (+) terminal of the bootstrap capacitor CB connects to this pin. The BOOST pins swings between (DRVCC - VSCHOTTKY) and (VIN + DRVCC - VSCHOTTKY).", 37 VTTSNS (in) "VTT Sense, Channel 2 Error Amplifier Feedback Input. Kelvin-connect this pin directly to desired regulation point on the VTT supply, VTTSNS provides the inverting regulation feedback signal for the VTT termination supply. (See Datasheet)", 38 VRNG2 (in) "Current Sense Voltage Range Inputs. When programmed between 0.6V and 2V, the voltage applied to VRNG1,2 is twenty times (20x) the maximum sense voltage between SENSE1,2+ and SENSE1,2-, i.e., for either channel, (VSENSE+ - (See Datasheet)", 39 EP (power) "Power Ground. Connect this pin as close as practical to the source of the bottom N-channel power MOSFET, the (-) terminal of CDRVCC and the (-) terminal of CIN. Connect the exposed pad and PGND pin to SGND pin using a single (See Datasheet)"

## LTC3876EFE#TRPBF
designator U?
Dual DC/DC Controller for DDR Power with Differential VDDQ Sensing and +/-50 mA VTT Reference, 38-pin SOP (FE-38-EPV-AA), -40 to 125 degC, Pb-Free, Tape and Reel; Manufacturer: Linear Technology; PartNumber: LTC3876EFE#TRPBF; Number of Outputs: 3; PackageReference: FE-38; PackageDescription: 38-Pin Plastic TSSOP, Body 9.7 x 4.4 mm, Pitch 0.5 mm; Supplier 1: Digi-Key; Supplier Part Number 1: LTC3876EFE#TRPBF-ND; RoHS: TRUE
footprint LT-FE-38-EPV-AA_N (SOP, 38-Leads, Body 9.8x4.5mm, Pitch 0.5mm, Thermal Pad 4.75x2.74mm, IPC Medium Density)
footprint LT-FE-38-EPV-AA_L (SOP, 38-Leads, Body 9.8x4.5mm, Pitch 0.5mm, Thermal Pad 4.75x2.74mm, IPC High Density)
footprint LT-FE-38-EPV-AA_M (SOP, 38-Leads, Body 9.8x4.5mm, Pitch 0.5mm, Thermal Pad 4.75x2.74mm, IPC Low Density)
pins: 1 CVCC (power) "Connect VCC. This pin should always be connected to INTVCC.", 2 SENSE2- (in) "Differential Current Comparator(-) Input. The comparator can be used for RSENSE sensing or inductor DCR sensing. For RSENSE current sensing Kelvin (4-wire) connect the SENSE- pin to the (-) terminal of RSENSE. For DCR (See Datasheet)", 3 SENSE2+ (in) "Differential Current Comparator (+) Input. The ITH pin voltage and controlled offsets between the SENSE+ and SENSE- pins set the current trip threshold. The comparator can be used for RSENSE sensing or inductor DCR sensing. (See Datasheet)", 4 PHASMD (in) "Phase Selector Input. This pin determines the relative phases of channels and the CLKOUT signal. With zero phase being defined as the rising edge of TG1: Pulling this pin to SGND locks TG2 to 180degrees and CLKOUT to (See Datasheet)", 5 ITH2 "Channel 2 VTT Current Control Threshold. This pin is the output of the error amplifier and the switching regulator’s compensation point. The current comparator threshold increases with this control voltage. This voltag(See Datasheet)", 6 VDDQSNS (in) "VDDQ Sense. VDDQSNS provides the VDDQ regulation reference point to the VTT differential reference resistor divider. The positive Input to the VTT differential reference resistor divider is VDDQSNS and negative input is (See Datasheet)", 7 VTTR (out) "VTT Reference. VTTR is the buffered output of the VTT differential reference resistor divider. VTTR is specifically designed for large DDR memory systems by providing superior accuracy and load regulation specified for up to (See Datasheet)", 8 VTTRVCC (power) "VTTR Supply Input for VTTR Reference. Connect to DRVCC through an RC decoupling filter of 2.2uF and 1ohm typically.", 9 MODE/PLLIN (in) "Operation Mode Selection or External Clock Synchronization Input. When this pin is tied to INTVCC forced continuous mode operation is selected. Typing this pin to SGND allows discontinuous mode operation on channel 1, VDDQ (See Datasheet)", 10 CLKOUT (out) "Clock Output of Internal Clock Generator. Its output level swings between INTVCC and SGND. If clock input is present at the MODE/PLLIN pin, it will be synchronized to the input clock, with phase set by the PHASMD pin. If no (See Datasheet)", 11 SGND (power) "Signal Ground. All small-signal analog components should be connected to this ground. Connect SGND to the exposed pad and PGND pin using a single PCB trace.", 12 RT "Clock Generator Frequency Programming Pin. Connect an external resistor from RT to SGND to program the switching frequency between 200kHz and 2MHz. An external clock applied to MODE/PLLIN should be within +/-30% of this (See Datasheet)", 13 VRNG1 (in) "Current Sense Voltage Range Inputs. When programmed between 0.6V and 2V, the voltage applied to VRNG1,2 is twenty times (20x) the maximum sense voltage between SENSE1,2+ and SENSE1,2-, i.e., for either channel, (VSENSE+ - (See Datasheet)", 14 ITH1 "Channel 1 VDDQ Current Control Threshold. This pin is the output of the error amplifier and the switching regulator’s compensation point. The current comparator threshold increases with this control voltage. The voltag(See Datasheet)", 15 TRACK/SS1 (in) "External Tracking and SoftStart Input for Channel 1 VDDQ . An internal 1uA temperature-independent pull-up current source is connected to the TRACK/SS1 pin. A capacitor to ground at this pin sets the ramp time to the final (See Datasheet)", 16 VOUTSENSE1+ (in) "VDDQ Differential Output Sense Amplifier (+) Input of Channel 1. Connect this pin to a feedback resistor divider between the positive and negative output capacitor terminals of VOUT1. In nominal operation the LTC3876 will (See Datasheet)", 17 VOUTSENSE1- (in) "Differential Output Sense Amplifier (-) Input of Channel 1. Connect this pin to the negative terminal of the output load capacitor. This pin is the remote ground connection for VDDQSNS which provides the input to the VTT (See Datasheet)", 18 SENSE1+ (in) "Differential Current Comparator (+) Input. The ITH pin voltage and controlled offsets between the SENSE+ and SENSE- pins set the current trip threshold. The comparator can be used for RSENSE sensing or inductor DCR sensing. (See Datasheet)", 19 SENSE1- (in) "Differential Current Comparator(-) Input. The comparator can be used for RSENSE sensing or inductor DCR sensing. For RSENSE current sensing Kelvin (4-wire) connect the SENSE- pin to the (-) terminal of RSENSE. For DCR (See Datasheet)", 20 DTR1 (in) "Detect Load Transient Transient for Overshoot Reduction. When load current suddenly drops, if voltage on this DTR pin drops below half of INTVCC, the bottom gate (BG) will turn off and allow the inductor current to drop to (See Datasheet)", 21 RUN (in) "Run Control Input. An internal proportional-to-absolute temperature (PTAT) pull-up current source (~2.5uA at 25degrees) is constantly connected to this pin. Taking RUN below a threshold (~0.8V at 25degrees) shuts down all (See Datasheet)", 22 PGOOD (oc) "Power Good Indicator Output. This open-drain logic output is pulled to ground when VDDQ goes out of a +/-7.5% or VTT goes out of a +/-10% window around the regulation point, after a 50us power-bad masking delay. Returning to (See Datasheet)", 23 BOOST1 "Boosted Floating Driver Supply for Top MOSFET Drivers. The (+) terminal of the bootstrap capacitor CB connects to this pin. The BOOST pins swings between (DRVCC - VSCHOTTKY) and (VIN + DRVCC - VSCHOTTKY).", 24 TG1 (out) "Top Gate Driver Outputs. The TG pins drive the gates of the top N-channel power MOSFET with a voltage swing of DRVCC between SW and BOOST.", 25 SW1 "Switch Node Connection to Inductors. Voltage swings are from a diode voltage below ground to VIN. The (-) terminal of the bootstrap capacitor, CB connects to this node.", 26 BG1 (out) "Bottom Gate Driver Outputs. The BG pins drive the gates of the bottom N-channel power MOSFET between PGND and DRVCC.", 27 DRVCC1 (power) "Supplies of Bottom Gate Drivers. DRVCC1 is also the output of an internal 5.3V regulator, DRVCC2 is also the output of the EXTVCC switch. Normally the two DRVCC pins are shorted together on the PCB, and decoupled to PGND (See Datasheet)", 28 VIN (power) "Input Voltage Supply. The supply voltage can range from 4.5V to 38V. For increased noise immunity decouple this pin to SGND with an RC filter. Voltage at this pin is also used to adjust top gate on-time, therefore it is (See Datasheet)", 29 PGND (power) "Power Ground. Connect this pin as close as practical to the source of the bottom N-channel power MOSFET, the (-) terminal of CDRVCC and the (-) terminal of CIN. Connect the exposed pad and PGND pin to SGND pin using a single (See Datasheet)", 30 INTVCC (power) "Supply Input for Internal Circuitry (Not Including Gate Drivers). Normally powered from the DRVCC pins through a decoupling RC filter to SGND (typically 2.2ohm and 1uF)", 31 EXTVCC (power) "External Power Input. When EXTVCC exceeds 4.7V, an internal switch connects this pin to DRVCC2 and shuts down the internal regulator so that INTVCC and gate-drive power is drawn from EXTVCC. The VIN pin still needs to be (See Datasheet)", 32 DRVCC2 (power) "Supplies of Bottom Gate Drivers. DRVCC1 is also the output of an internal 5.3V regulator, DRVCC2 is also the output of the EXTVCC switch. Normally the two DRVCC pins are shorted together on the PCB, and decoupled to PGND (See Datasheet)", 33 BG2 (out) "Bottom Gate Driver Outputs. The BG pins drive the gates of the bottom N-channel power MOSFET between PGND and DRVCC.", 34 SW2 "Switch Node Connection to Inductors. Voltage swings are from a diode voltage below ground to VIN. The (-) terminal of the bootstrap capacitor, CB connects to this node.", 35 TG2 (out) "Top Gate Driver Outputs. The TG pins drive the gates of the top N-channel power MOSFET with a voltage swing of DRVCC between SW and BOOST.", 36 BOOST2 "Boosted Floating Driver Supply for Top MOSFET Drivers. The (+) terminal of the bootstrap capacitor CB connects to this pin. The BOOST pins swings between (DRVCC - VSCHOTTKY) and (VIN + DRVCC - VSCHOTTKY).", 37 VTTSNS (in) "VTT Sense, Channel 2 Error Amplifier Feedback Input. Kelvin-connect this pin directly to desired regulation point on the VTT supply, VTTSNS provides the inverting regulation feedback signal for the VTT termination supply. (See Datasheet)", 38 VRNG2 (in) "Current Sense Voltage Range Inputs. When programmed between 0.6V and 2V, the voltage applied to VRNG1,2 is twenty times (20x) the maximum sense voltage between SENSE1,2+ and SENSE1,2-, i.e., for either channel, (VSENSE+ - (See Datasheet)", 39 EP (power) "Power Ground. Connect this pin as close as practical to the source of the bottom N-channel power MOSFET, the (-) terminal of CDRVCC and the (-) terminal of CIN. Connect the exposed pad and PGND pin to SGND pin using a single (See Datasheet)"